# Altium footprint library 2020-07-24_19-35-46.PcbLib: 2 footprints
Each footprint in its own frame and in the unit in brackets; x right, y up, seen from the top. Pads: shape width x height; smd on the part's side, far side on the other; paste and mask are expansions set on the pad; w line width, h text height; cw(c..) or ccw(c..) is an arc to the next point about the centre after c.
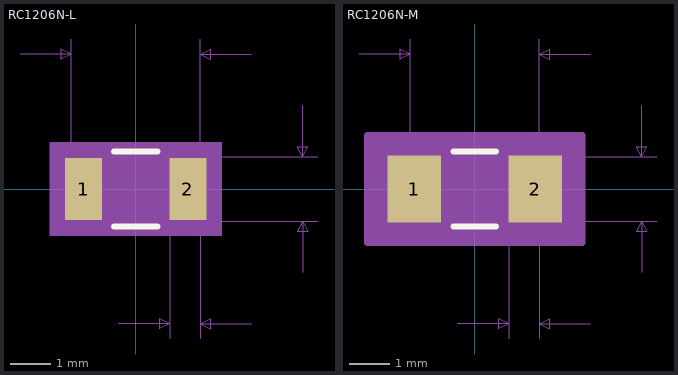
[diagram p0: the footprints below, top view; thin cyan lines are the x and y axes]

## RC1206N-L [mil]
pads (2):
  rect 36x61 smd paste+0 mask+0: 1(-51,0) 2(51,0)
Top Overlay:
  lines w6: -21.35,-36.5 21.35,-36.5 ; -21.35,36.5 21.35,36.5
Mechanical 5:
  region: 84,-45.5 -84,-45.5 -84,45.5 84,45.5
Mechanical 7:
  lines w1: -113,131.5 -63,131.5 ; -63,0 -63,146.5 ; -17,-131.5 33,-131.5 ; 0,-31.5 178,-31.5 ; 0,31.5 178,31.5 ; 33,-146.5 33,0 ; 63,-146.5 63,0 63,146.5 ; 113,-131.5 63,-131.5 ; 113,131.5 63,131.5 ; 163,-81.5 163,-31.5 ; 163,81.5 163,31.5 ; -63,131.5 -73,136.5 -73,126.5 -63,131.5 ; 33,-131.5 23,-126.5 23,-136.5 33,-131.5 ; 63,-131.5 73,-126.5 73,-136.5 63,-131.5 ; 63,131.5 73,136.5 73,126.5 63,131.5 ; 163,-31.5 158,-41.5 168,-41.5 163,-31.5 ; 163,31.5 158,41.5 168,41.5 163,31.5
  text "Default Padstyle: RX36Y61D0T" at -350,-300.5 h50
  text "Alternate 1 Padstyle: OX60Y90D30P" at -412.5,-400.5 h50
  text "Alternate 2 Padstyle: OX90Y60D30P" at -412.5,-500.5 h50
  text "0.063in/1.6mm" at 183,-12.5 h25
  text "0.126in/3.2mm" at -81.25,151.5 h25
  text "0.03in/0.762mm" at -39.5,-176.5 h25
Mechanical 13:
  lines w1: -63,-31.5 -63,31.5 ; -63,-31.5 -33,-31.5 -33,31.5 -63,31.5 ; -63,-31.5 63,-31.5 ; -63,-31.5 -63,31.5 ; -63,31.5 63,31.5 ; 63,-31.5 33,-31.5 33,31.5 63,31.5 ; 63,-31.5 63,31.5 ; 63,-31.5 63,31.5
Mechanical 15:
  region: 73,-34.5 -73,-34.5 -73,34.5 73,34.5
  lines w6: -73,-34.5 -73,34.5 73,34.5 73,-34.5 -73,-34.5
3D body: height 10, standoff 0, extent 0,0 10,10

## RC1206N-M [mil]
pads (2):
  rect 52x65 smd paste+0 mask+0: 1(-59,0) 2(59,0)
Top Overlay:
  lines w6: -20.53,-36.5 20.53,-36.5 ; -20.53,36.5 20.53,36.5
Mechanical 5:
  region: 100,-47.5 -100,-47.5 -100,47.5 100,47.5
Mechanical 7:
  lines w1: -113,131.5 -63,131.5 ; -63,0 -63,146.5 ; -17,-131.5 33,-131.5 ; 0,-31.5 178,-31.5 ; 0,31.5 178,31.5 ; 33,-146.5 33,0 ; 63,-146.5 63,0 63,146.5 ; 113,-131.5 63,-131.5 ; 113,131.5 63,131.5 ; 163,-81.5 163,-31.5 ; 163,81.5 163,31.5 ; -63,131.5 -73,136.5 -73,126.5 -63,131.5 ; 33,-131.5 23,-126.5 23,-136.5 33,-131.5 ; 63,-131.5 73,-126.5 73,-136.5 63,-131.5 ; 63,131.5 73,136.5 73,126.5 63,131.5 ; 163,-31.5 158,-41.5 168,-41.5 163,-31.5 ; 163,31.5 158,41.5 168,41.5 163,31.5
  text "Default Padstyle: RX52Y65D0T" at -350,-302.5 h50
  text "Alternate 1 Padstyle: OX60Y90D30P" at -412.5,-402.5 h50
  text "Alternate 2 Padstyle: OX90Y60D30P" at -412.5,-502.5 h50
  text "0.063in/1.6mm" at 183,-12.5 h25
  text "0.126in/3.2mm" at -81.25,151.5 h25
  text "0.03in/0.762mm" at -39.5,-176.5 h25
Mechanical 13:
  lines w1: -63,-31.5 -63,31.5 ; -63,-31.5 -33,-31.5 -33,31.5 -63,31.5 ; -63,-31.5 63,-31.5 ; -63,-31.5 -63,31.5 ; -63,31.5 63,31.5 ; 63,-31.5 33,-31.5 33,31.5 63,31.5 ; 63,-31.5 63,31.5 ; 63,-31.5 63,31.5
Mechanical 15:
  region: 105,-52.5 -105,-52.5 -105,52.5 105,52.5
  lines w6: -105,-52.5 -105,52.5 105,52.5 105,-52.5 -105,-52.5
3D body: height 10, standoff 0, extent 0,0 10,10